# EAGLE library part SN74LVC14APWR (library MM24I)
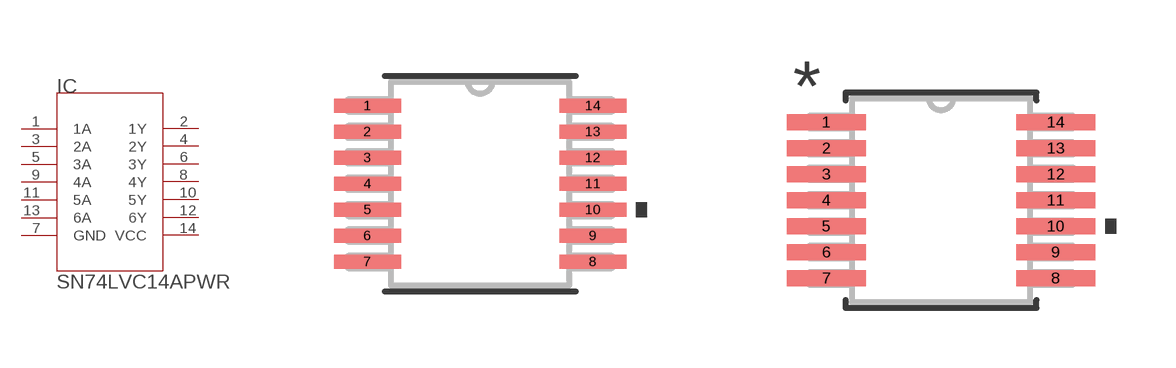
[diagram p5: symbol with the pads of PW14; footprints PW14, PW14-M]

Designator prefix IC

## SN74LVC14APWR (BUILT_BY: EMA_UL_Team; MANUFACTURER: Texas Instruments; MANUFACTURER_PART_NUMBER: SN74LVC14APWR; VENDOR: Texas Instruments)  [PW14]
1  1A  in
2  1Y  out
3  2A  in
4  2Y  out
5  3A  in
6  3Y  out
7  GND  pwr
8  4Y  out
9  4A  in
10  5Y  out
11  5A  in
12  6Y  out
13  6A  in
14  VCC  pwr

## SN74LVC14APWRPW14-M (BUILT_BY: EMA_UL_Team; MANUFACTURER: Texas Instruments; MANUFACTURER_PART_NUMBER: SN74LVC14APWR; VENDOR: Texas Instruments)  [PW14-M]
Pads as for PW14

## SN74LVC14APWRPW14-L (BUILT_BY: EMA_UL_Team; MANUFACTURER: Texas Instruments; MANUFACTURER_PART_NUMBER: SN74LVC14APWR; VENDOR: Texas Instruments)  [PW14-L]
Pads as for PW14

## Footprint PW14 (pad centres in mm)
smd 1.676 x 0.356: 1 -2.819,1.95; 2 -2.819,1.3; 3 -2.819,0.65; 4 -2.819,0; 5 -2.819,-0.65; 6 -2.819,-1.3; 7 -2.819,-1.95; 8 2.819,-1.95; 9 2.819,-1.3; 10 2.819,-0.65; 11 2.819,0; 12 2.819,0.65; 13 2.819,1.3; 14 2.819,1.95

## Footprint PW14-M (pad centres in mm)
smd 1.981 x 0.406: 1 -2.87,1.95; 2 -2.87,1.3; 3 -2.87,0.65; 4 -2.87,0; 5 -2.87,-0.65; 6 -2.87,-1.3; 7 -2.87,-1.95; 8 2.87,-1.95; 9 2.87,-1.3; 10 2.87,-0.65; 11 2.87,0; 12 2.87,0.65; 13 2.87,1.3; 14 2.87,1.95

## Footprint PW14-L (pad centres in mm)
smd 1.372 x 0.305: 1 -2.769,1.95; 2 -2.769,1.3; 3 -2.769,0.65; 4 -2.769,0; 5 -2.769,-0.65; 6 -2.769,-1.3; 7 -2.769,-1.95; 8 2.769,-1.95; 9 2.769,-1.3; 10 2.769,-0.65; 11 2.769,0; 12 2.769,0.65; 13 2.769,1.3; 14 2.769,1.95